# EAGLE library part XS02-4S (library connectors)
Shielded connector, 2 pins, 4 shield pins
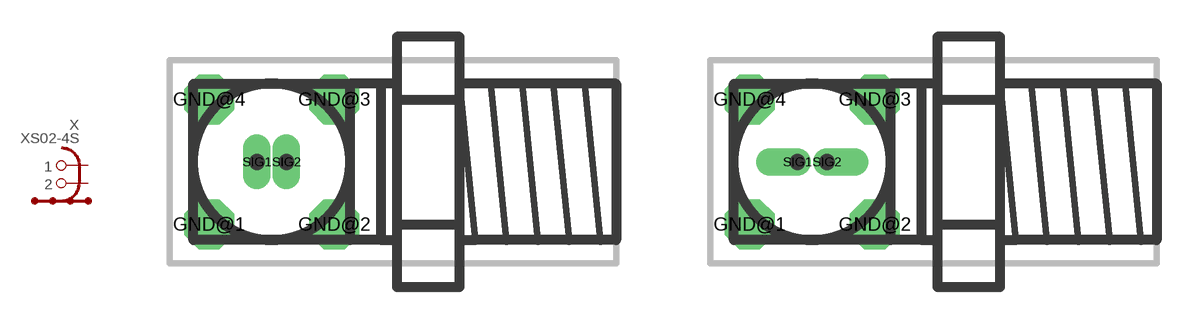
[diagram p61: symbol with the pads of XS02-4S2; footprints XS02-4S2, XS02-4S]

Designator prefix X

## XS02-4S  [XS02-4S2]
GND@1  GND
GND@2  GND
GND@3  GND
GND@4  GND
SIG1  1
SIG2  2

## XS02-4S1  [XS02-4S]
Pads as for XS02-4S2

## XS02-4S2  [XS02-4S2]
Pads as for XS02-4S2

## XS02-4S3  [XS02-4S3]
Pads as for XS02-4S2

## XS02-4S-LEMON  [XS02-LEMON]
1  1
2  2
GND@1  GND
GND@2  GND
GND@3  GND
GND@4  GND

## XS02-4S-LEMOR  [XS02-LEMOR]
Pads as for XS02-LEMON

## Footprint XS02-4S2 (pad centres in mm)
LEMO connector 00, 2 pole, angled pad arrangement 2 - LEMO: XBG.00.302.NLN
drill 0.813 pad 2.032 octagon: GND@1 0,0; GND@2 5.08,0; GND@3 5.08,5.08; GND@4 0,5.08
drill 0.61 pad 0.965 long: SIG1 1.94,2.54; SIG2 3.14,2.54

## Footprint XS02-4S (pad centres in mm)
LEMO connector 00, 2 pole, angled pad arrangement 1 - LEMO: XBG.00.302.NLN
drill 0.813 pad 2.032 octagon: GND@1 -2.54,-2.54; GND@2 2.54,-2.54; GND@3 2.54,2.54; GND@4 -2.54,2.54
drill 0.61 pad 0.965 offset: SIG1 -0.6,0; SIG2 0.6,0

## Footprint XS02-4S3 (pad centres in mm)
LEMO connector 00, 2 pole, angled pad arrangement 3 - LEMO: XBG.00.302.NLN
drill 0.813 pad 2.032 octagon: GND@1 0,0; GND@2 5.08,0; GND@3 5.08,5.08; GND@4 0,5.08
drill 0.61 pad 0.965 square: SIG1 1.94,2.54; SIG2 3.14,2.54

## Footprint XS02-LEMON (pad centres in mm)
LEMO connector 0B, 2 pole, angled - LEMO: EXG.0B.302.HLN
drill 0.813 pad 2.032 octagon: 1 -1.27,-1.27; 2 -1.27,1.27; GND@1 -3.81,-3.81; GND@2 3.81,-3.81; GND@3 3.81,3.81; GND@4 -3.81,3.81

## Footprint XS02-LEMOR (pad centres in mm)
LEMO connector 0B, 2 pole, angled, reduced pads - LEMO: EXG.0B.302.HLN
drill 0.813 pad 1.397 square: 1 -1.27,-1.27; 2 -1.27,1.27
drill 0.813 pad 2.032 octagon: GND@1 -3.81,-3.81; GND@2 3.81,-3.81; GND@3 3.81,3.81; GND@4 -3.81,3.81